# Altium footprint library FLASH.PcbLib: 5 footprints
Each footprint in its own frame and in the unit in brackets; x right, y up, seen from the top. Pads: shape width x height; smd on the part's side, far side on the other; paste and mask are expansions set on the pad; w line width, h text height; cw(c..) or ccw(c..) is an arc to the next point about the centre after c.
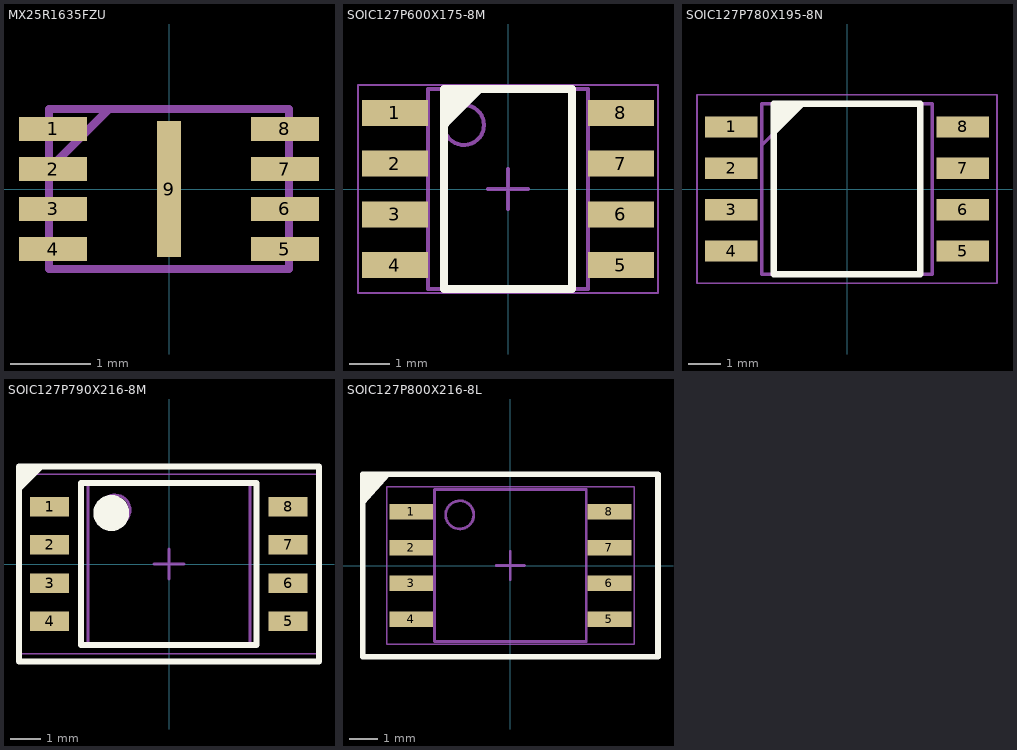
[diagram p0: the footprints below, top view; thin cyan lines are the x and y axes]

## MX25R1635FZU [mm] "1.65V~3.6V 100,000 Cycles 16Mbit 20 Years 3.2ms 80MHz SPI USON-8-EP(2x3) NOR FLASH ROHS"
pads (9):
  rect 0.85x0.3 smd mask+0.05: 1(-1.45,0.75) 2(-1.45,0.25) 3(-1.45,-0.25) 4(-1.45,-0.75) 5(1.45,-0.75) 6(1.45,-0.25) 7(1.45,0.25) 8(1.45,0.75)
  rect 0.3x1.7 smd mask+0.05: 9(0,0)
Mechanical 13:
  lines w0.1: -1.5,0.25 -0.75,1 ; -1.5,-1 -1.5,1 1.5,1 1.5,-1 -1.5,-1
Mechanical 15:
  lines w0.05: -1.5,-1 -1.5,1 1.5,1 1.5,-1 -1.5,-1
3D body "MX25R1635FZUIH0.stp": height 0.6, standoff 0, extent -1.55,-1 1.55,1

## SOIC127P600X175-8M [mm] "SOIC, 8-Leads, Body 4.90x3.90mm, Pitch 1.27mm, IPC Low Density"
height 1.75
pads (8):
  rect 1.65x0.65 smd: 1(-2.825,1.905) 2(-2.825,0.635) 3(-2.825,-0.635) 4(-2.825,-1.905) 5(2.825,-1.905) 6(2.825,-0.635) 7(2.825,0.635) 8(2.825,1.905)
Top Overlay:
  lines w0.2: -1.58,1.617 -0.748,2.457 -1.565,1.811 ; -1.541,2.472 -1.463,2.355 -1.463,2.371 -1.323,2.402 -1.526,2.052 -1.129,2.449 -1.565,1.811 ; -1.565,1.811 -0.966,2.449 -1.565,1.811 ; -1.6,-2.5 -1.6,2.5 1.6,2.5 1.6,-2.5 -1.6,-2.5
Mechanical 13:
  circle w0.1: c-1.1,1.6 r0.5
  lines w0.1: -2,-2.5 -2,2.5 2,2.5 2,-2.5 -2,-2.5
Mechanical 15:
  lines w0.05: -3.75,-2.6 -3.75,2.6 3.75,2.6 3.75,-2.6 -3.75,-2.6
  lines w0.1: -0.5,0 0.5,0 ; 0,-0.5 0,0.5
3D body "SOIC127P600X175-8M.step": height 1.75, standoff 0, extent -3,-2.5 3,2.5

## SOIC127P780X195-8N [mm]
pads (8):
  rect 1.6x0.65 smd: 1(-3.55,1.905) 2(-3.55,0.635) 3(-3.55,-0.635) 4(-3.55,-1.905) 5(3.55,-1.905) 6(3.55,-0.635) 7(3.55,0.635) 8(3.55,1.905)
Top Overlay:
  lines w0.2: -2.25,1.75 -1.5,2.5 ; -1.422,2.578 -1.5,2.5 ; -2,2.5 -2.25,2.25 -2.25,2 -1.75,2.5 ; -2,2.5 -2.135,2.5 -2,2.5 ; -2,2.5 -1.75,2.5 ; -1.75,2.5 -1.5,2.5 ; -1.75,2.5 -1.5,2.5 ; -2.25,-2.615 -2.25,2.615 2.25,2.615 2.25,-2.615 -2.25,-2.615
Mechanical 13:
  lines w0.1: -2.615,1.345 -1.345,2.615 ; -2.615,-2.615 -2.615,2.615 2.615,2.615 2.615,-2.615 -2.615,-2.615
Mechanical 15:
  lines w0.05: -4.6,-2.89 -4.6,2.89 4.6,2.89 4.6,-2.89 -4.6,-2.89
3D body "W25Q128JVSIQ_TR.stp": height 1.95, standoff 0, extent -3.9,-2.615 3.9,2.615

## SOIC127P790X216-8M [mm] "SOIC, 8-Leads, Body 5.28x5.28mm, Pitch 1.27mm, IPC Low Density"
height 2.16
pads (8):
  rect 1.3x0.65 smd: 1(-3.975,1.905) 2(-3.975,0.635) 3(-3.975,-0.635) 4(-3.975,-1.905) 5(3.975,-1.905) 6(3.975,-0.635) 7(3.975,0.635) 8(3.975,1.905)
Top Overlay:
  circle w0.6: c-1.925,1.7 r0.3
  lines w0.2: -5,2.5 -4.25,3.25 -5,2.75 -4.5,3.25 -4.956,2.935 -4.863,3.235 -4.735,3.235 -4.678,3.22 -4.635,3.106 ; -5,-3.25 -5,3.25 5,3.25 5,-3.25 -5,-3.25 ; -2.925,-2.7 -2.925,2.7 2.925,2.7 2.925,-2.7 -2.925,-2.7
Mechanical 13:
  circle w0.1: c-1.8,1.8 r0.5
  lines w0.1: -2.7,-2.7 -2.7,2.7 2.7,2.7 2.7,-2.7 -2.7,-2.7
Mechanical 15:
  lines w0.05: -5,-3 -5,3 5,3 5,-3 -5,-3
  lines w0.1: -0.5,0 0.5,0 ; 0,-0.5 0,0.5
3D body "SOIC127P790X216-8M.step": height 2.16, standoff 0, extent -3.95,-2.7 3.95,2.7

## SOIC127P800X216-8L [mm] "SOIC, 8-Leads, Body 5.26x5.29mm, Pitch 1.27mm, IPC High Density"
height 2.16
pads (8):
  rect 1.55x0.55 smd: 1(-3.525,1.905) 2(-3.525,0.635) 3(-3.525,-0.635) 4(-3.525,-1.905) 5(3.525,-1.905) 6(3.525,-0.635) 7(3.525,0.635) 8(3.525,1.905)
Top Overlay:
  lines w0.2: -5.236,2.997 ccw(c-5.236,3.177) -5.056,3.177 cw(c-5.025,3.177) -5.025,3.208 ccw(c-5.025,3.035) -5.198,3.035 cw(c-5.12,3.035) -5.12,3.113 -4.87,3.113 cw(c-5.106,3.113) -5.106,2.878 -4.75,3.25 -5.215,2.614 -5.247,2.265 ; -4.572,3.171 -5.247,2.265 ; -4.382,3.237 -5.247,2.265 ; -5.25,-3.25 -5.25,3.25 5.25,3.25 5.25,-3.25 -5.25,-3.25
Mechanical 13:
  circle w0.1: c-1.8,1.8 r0.5
  lines w0.1: -2.7,-2.7 -2.7,2.7 2.7,2.7 2.7,-2.7 -2.7,-2.7
Mechanical 15:
  lines w0.05: -4.4,-2.8 -4.4,2.8 4.4,2.8 4.4,-2.8 -4.4,-2.8
  lines w0.1: -0.5,0 0.5,0 ; 0,-0.5 0,0.5
3D body "SOIC127P800X216-8L.step": height 2.16, standoff 0, extent -3.99,-2.7 3.99,2.7